# Altium footprint library LS240D8.PcbLib: 1 footprints
Each footprint in its own frame and in the unit in brackets; x right, y up, seen from the top. Pads: shape width x height; smd on the part's side, far side on the other; paste and mask are expansions set on the pad; w line width, h text height; cw(c..) or ccw(c..) is an arc to the next point about the centre after c.
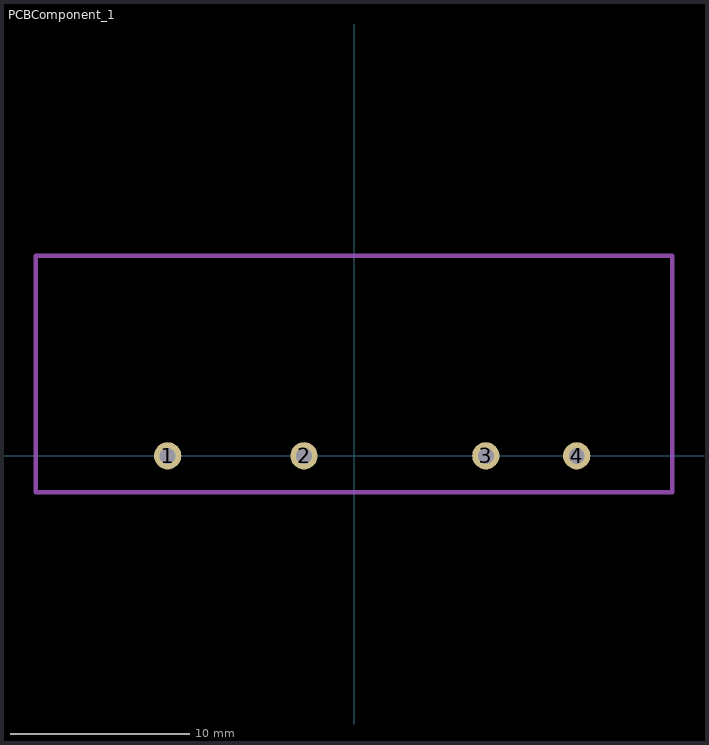
[diagram p0: the footprint, top view; thin cyan lines are the x and y axes]

## PCBComponent_1 [mil] "LS240D8"
pads (4):
  round 60 hole 35: 1(-410,0) 2(-110,0) 3(290,0) 4(490,0)
Mechanical 1:
  lines w10: -700,-80 700,-80 700,300 700,440 -700,440 -700,-80
  text ".Designator" at -665,-210 h60